# Altium footprint library PCB - LEADED - TO268 - D3PACK - TO545P1270X500-3N.PCBLIB: 1 footprints
Each footprint in its own frame and in the unit in brackets; x right, y up, seen from the top. Pads: shape width x height; smd on the part's side, far side on the other; paste and mask are expansions set on the pad; w line width, h text height; cw(c..) or ccw(c..) is an arc to the next point about the centre after c.
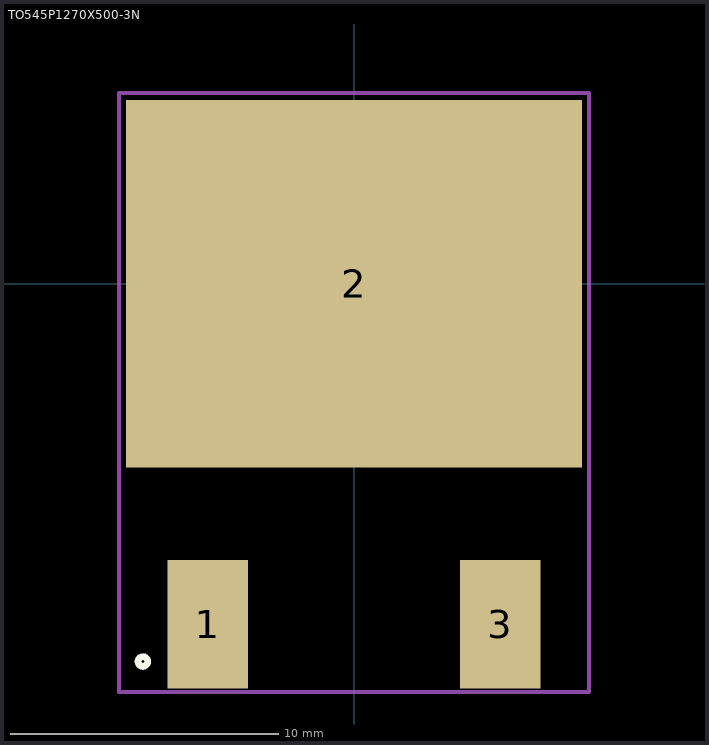
[diagram p0: the footprint, top view; thin cyan lines are the x and y axes]

## TO545P1270X500-3N [mm]
pads (3):
  rect 3x4.8 smd: 1(-5.45,-12.7) 3(5.45,-12.7)
  rect 17x13.7 smd: 2(0,0)
Top Overlay:
  circle w0.254: c-7.874,-14.097 r0.18
Top Courtyard:
  lines w0.153: -8.763,-15.24 8.763,-15.24 8.763,7.112 -8.763,7.112 -8.763,-5.588 -8.763,-15.24
Top Value (Mech13):
  lines w0.1: -3.283,-1.888 3.283,-1.888 3.283,4.212 -3.283,4.212 -3.283,-1.888
Mechanical 15:
  lines w0.1: -4.283,-6.313 4.283,-6.313 4.283,6.287 -4.283,6.287 -4.283,-6.313
3D body "User Library-TO545P1905X510_HS-3.STEP": height 5.1, standoff 0, extent -8.001,-13.221 8.001,5.829